# EAGLE library part WS2812 (library jasons_stuff)
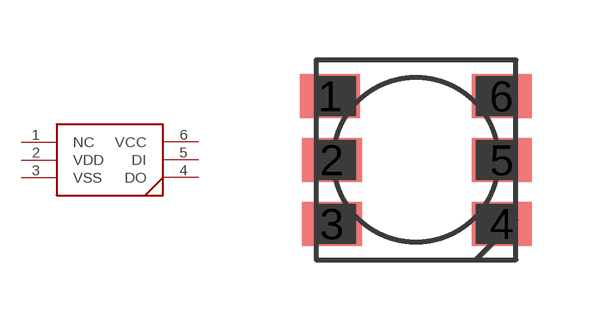
[diagram p41: symbol with the pads of 5050LED; footprint 5050LED]

Designator prefix -

## WS2812  [5050LED]
1  NC
2  VDD
3  VSS
4  DO
5  DI
6  VCC

## Footprint 5050LED (pad centres in mm)
smd 1.5 x 1.1: 1 -2.16,1.59; 2 -2.11,-0.01; 3 -2.11,-1.61; 4 2.14,-1.61; 5 2.14,-0.01; 6 2.14,1.59